# Altium footprint library syhaunguyen.PcbLib: 329 footprints (part 19 of 21)
Each footprint in its own frame and in the unit in brackets; x right, y up, seen from the top. Pads: shape width x height; smd on the part's side, far side on the other; paste and mask are expansions set on the pad; w line width, h text height; cw(c..) or ccw(c..) is an arc to the next point about the centre after c.
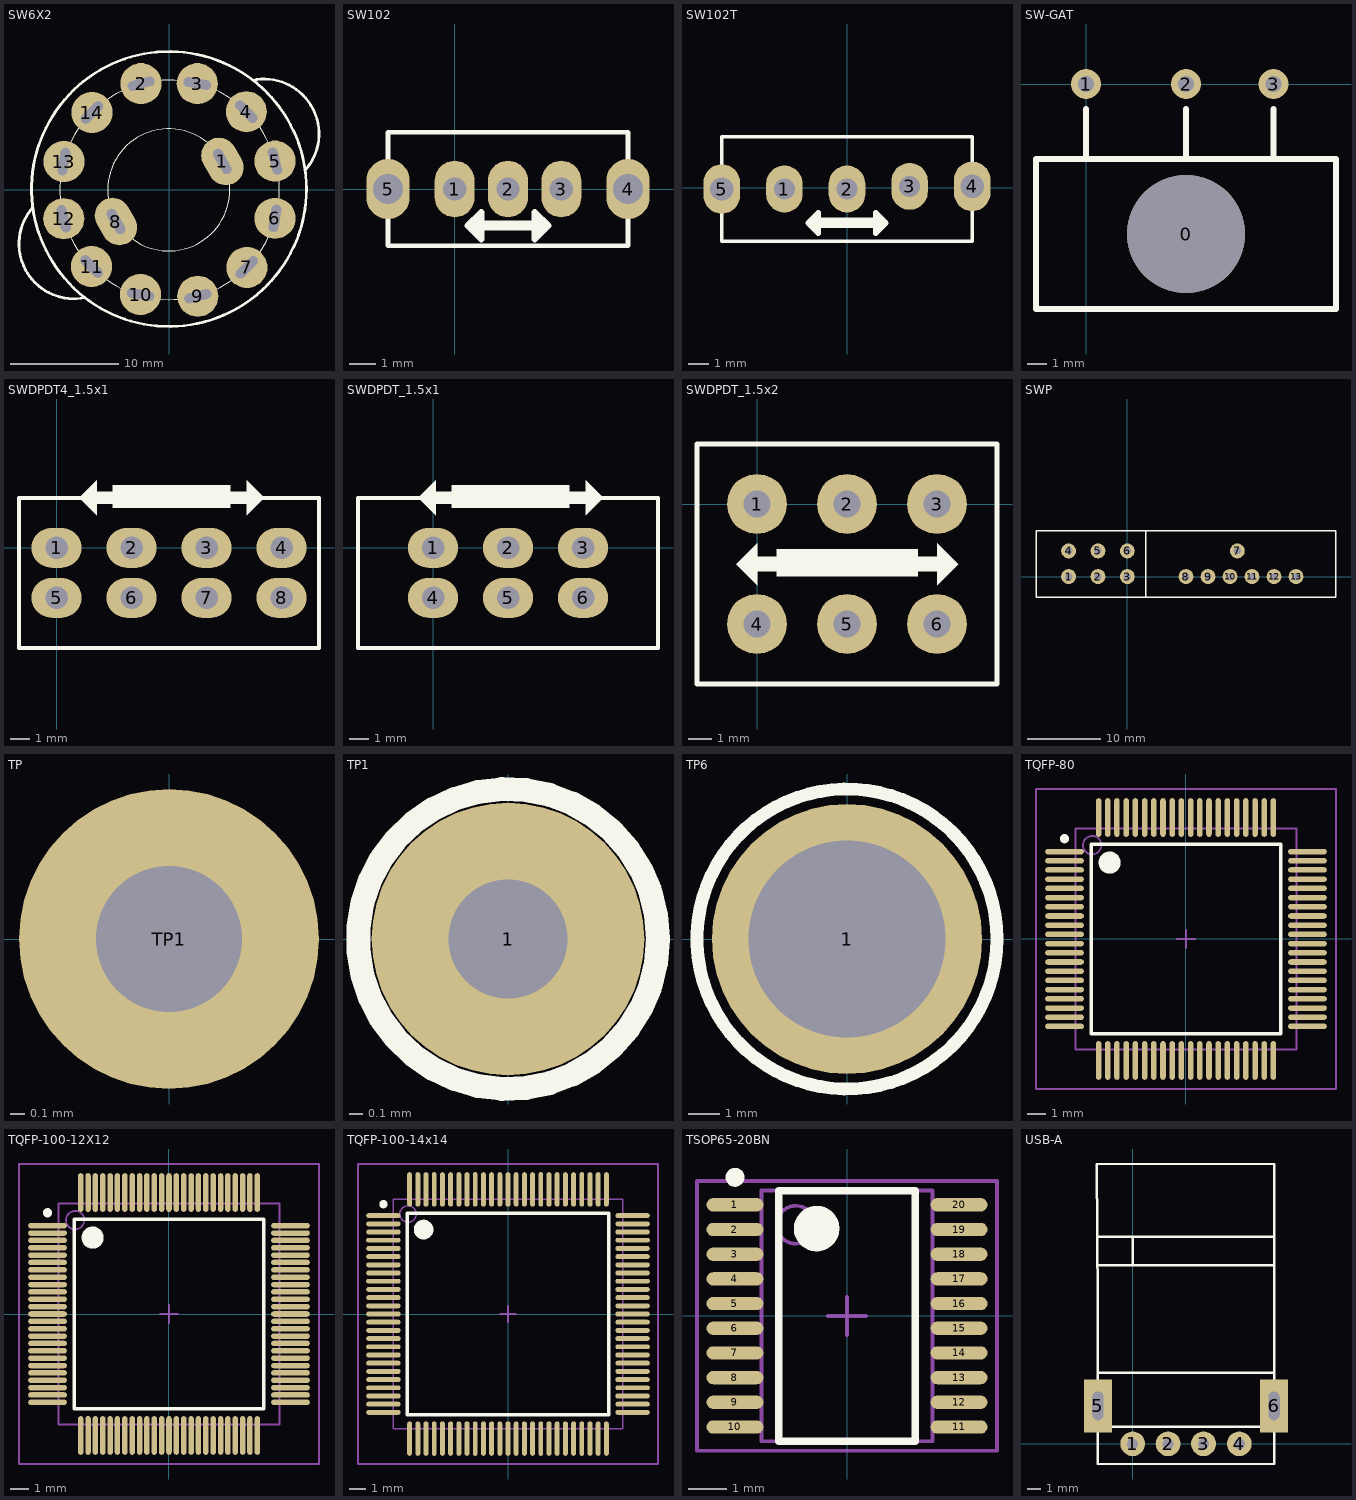
[diagram p18: the footprints below, top view; thin cyan lines are the x and y axes]

## SW6X2 [mil] "Switch 6x2"
height 500
pads (14):
  oval 180x130 hole 35 slot 100 at 120 deg rot 120: 1(193,104) 8(-195,-115)
  round 150 hole 35 slot 100 at 15 deg: 2(-103.48,387.48) 9(103.48,-387.48)
  round 150 hole 35 slot 100 at 170 deg: 3(101.54,387.46) 10(-105.2,-381.27)
  round 150 hole 35 slot 100 at 135 deg: 4(280.32,285.24) 11(-283.98,-279.05)
  round 150 hole 35 slot 100 at 105 deg: 5(385,105) 12(-385,-105)
  round 150 hole 35 slot 100 at 80 deg: 6(384.48,-103.48) 13(-384.48,103.48)
  round 150 hole 35 slot 100 at 45 deg: 7(282.26,-282.26) 14(-282.26,282.26)
Top Overlay:
  circle w10: c-1.46,3.46 r501
  circle w1: c0.54,0.46 r400
  circle w1: c-2.46,0.46 r222.5
  lines w10: -498,-63.94 ccw(c-348.29,-196.56) -307.65,-392.38 ; 303.52,399.93 cw(c345.18,204.32) 495.11,71.95

## SW102 [mil] "Switch 102 On Board nho"
height 2
pads (5):
  oval 60x85 hole 35: 1(0,0) 2(80,0) 3(160,0)
  oval 65x90 hole 45: 4(260,0) 5(-100,0)
Top Overlay:
  lines w7: -100,-45 -100,-85 260,-85 260,-45 ; -100,45 -100,85 260,85 260,45
  lines w10: 20,-55 40,-35 40,-75 20,-55 ; 120,-75 120,-35 140,-55 120,-75
  lines w15: 30,-55 130,-55

## SW102T [mil] "Switch 102 On Board To"
height 2
pads (5):
  oval 70x90 hole 40: 1(-120,-2.5) 2(0,-2.5) 3(120,2.5)
  oval 70x95 hole 45: 4(240,2.5) 5(-240,-2.5)
Top Overlay:
  lines w7: -240,-50 -240,-102.5 240,-102.5 240,-45 ; -240,45 -240,97.5 240,97.5 240,45
  lines w10: -75,-67.5 -55,-47.5 -55,-87.5 -75,-67.5 ; 55,-87.5 55,-47.5 75,-67.5 55,-87.5
  lines w20: -65,-67.5 65,-67.5

## SW-GAT [mil]
pads (4):
  round 236.22 hole 236.22: 0(200,-300)
  round 60 hole 31.5: 1(0,0) 2(200,0) 3(375,0)
Top Overlay:
  lines w12: 0,-150 0,-50 ; 200,-150 200,-50 ; 375,-150 375,-50 ; -100,-450 -100,-150 500,-150 500,-450 -100,-450

## SWDPDT4_1.5x1 [mil] "Switch 3 DPDT, Pin to Pin 150mil, Row to Row 100mil"
pads (8):
  oval 100x80 hole 45: 1(0,0) 2(150,0) 3(300,0) 4(450,0) 5(0,-100) 6(150,-100) 7(300,-100) 8(450,-100)
Top Overlay:
  region: 80,135 80,65 45,100
  region: 380,135 380,65 415,100
  region: 112.5,125 347.5,125 347.5,80 112.5,80
  lines w8: -75,-200 525,-200 525,100 -75,100 -75,-200
  lines w25: 75,100 125,100 ; 335,100 385,100

## SWDPDT_1.5x1 [mil] "Switch DPDT, Pin to Pin 150mil, Row to Row 100mil"
pads (6):
  oval 100x80 hole 45: 1(0,0) 2(150,0) 3(300,0) 4(0,-100) 5(150,-100) 6(300,-100)
Top Overlay:
  region: 5,135 5,65 -30,100
  region: 305,135 305,65 340,100
  region: 37.5,125 272.5,125 272.5,80 37.5,80
  lines w8: -150,-200 450,-200 450,100 -150,100 -150,-200
  lines w25: 0,100 50,100 ; 260,100 310,100

## SWDPDT_1.5x2 [mil] "Switch DPDT, Pin to Pin 150mil, Row to Row 200mil"
pads (6):
  round 100 hole 45: 1(0,0) 2(150,0) 3(300,0) 4(0,-200) 5(150,-200) 6(300,-200)
Top Overlay:
  region: 0,-65 0,-135 -35,-100
  region: 300,-65 300,-135 335,-100
  region: 32.5,-75 267.5,-75 267.5,-120 32.5,-120
  lines w8: -100,-300 400,-300 400,100 -100,100 -100,-300
  lines w25: -5,-100 45,-100 ; 255,-100 305,-100

## SWP [mil] "SW Power"
height 100
pads (13):
  round 80 hole 40: 1(-314.96,0) 2(-157.48,0) 3(0,0) 4(-314.96,137.8) 5(-157.48,137.8) 6(0,137.8) 7(590.55,137.8) 8(314.96,0) 9(433.07,0) 10(551.18,0) 11(669.29,0) 12(787.4,0) 13(905.51,0)
Top Overlay:
  lines w8: 100,-109.33 100,245 ; -490,-110 1120,-110 1120,245 -490,245 -490,-110

## TP [mil] "Connect 1"
pads (1):
  round 80 hole 39: TP1(0,0)
3D body: height 178.54, standoff -113.98, extent -50,-50 50,50

## TP1 [mil] "Test point"
height 150
pads (1):
  round 80 hole 35: 1(0,0)
Top Overlay:
  circle w7: c0,0 r44.01
3D body: height 178.11, standoff -114.41, extent -50,-50 50,50

## TP6 [mm] "Jac cap 6ly"
height 3.81
pads (1):
  round 8.5 hole 6.2: 1(0,0)
Top Overlay:
  circle w0.406: c0,0 r4.724

## TQFP-80 [mm] "Thin QFP, 80-Leads, Body 12x12mm, Pitch 0.5mm, IPC Low Density"
height 1.2
pads (80):
  oval 2.1x0.3 smd: 1(-6.6,4.75) 2(-6.6,4.25) 3(-6.6,3.75) 4(-6.6,3.25) 5(-6.6,2.75) 6(-6.6,2.25) 7(-6.6,1.75) 8(-6.6,1.25) 9(-6.6,0.75) 10(-6.6,0.25) 11(-6.6,-0.25) 12(-6.6,-0.75) 13(-6.6,-1.25) 14(-6.6,-1.75) 15(-6.6,-2.25) 16(-6.6,-2.75) 17(-6.6,-3.25) 18(-6.6,-3.75) 19(-6.6,-4.25) 20(-6.6,-4.75) 41(6.6,-4.75) 42(6.6,-4.25) 43(6.6,-3.75) 44(6.6,-3.25) 45(6.6,-2.75) 46(6.6,-2.25) 47(6.6,-1.75) 48(6.6,-1.25) 49(6.6,-0.75) 50(6.6,-0.25) 51(6.6,0.25) 52(6.6,0.75) 53(6.6,1.25) 54(6.6,1.75) 55(6.6,2.25) 56(6.6,2.75) 57(6.6,3.25) 58(6.6,3.75) 59(6.6,4.25) 60(6.6,4.75)
  oval 0.3x2.1 smd: 21(-4.75,-6.6) 22(-4.25,-6.6) 23(-3.75,-6.6) 24(-3.25,-6.6) 25(-2.75,-6.6) 26(-2.25,-6.6) 27(-1.75,-6.6) 28(-1.25,-6.6) 29(-0.75,-6.6) 30(-0.25,-6.6) 31(0.25,-6.6) 32(0.75,-6.6) 33(1.25,-6.6) 34(1.75,-6.6) 35(2.25,-6.6) 36(2.75,-6.6) 37(3.25,-6.6) 38(3.75,-6.6) 39(4.25,-6.6) 40(4.75,-6.6) 61(4.75,6.6) 62(4.25,6.6) 63(3.75,6.6) 64(3.25,6.6) 65(2.75,6.6) 66(2.25,6.6) 67(1.75,6.6) 68(1.25,6.6) 69(0.75,6.6) 70(0.25,6.6) 71(-0.25,6.6) 72(-0.75,6.6) 73(-1.25,6.6) 74(-1.75,6.6) 75(-2.25,6.6) 76(-2.75,6.6) 77(-3.25,6.6) 78(-3.75,6.6) 79(-4.25,6.6) 80(-4.75,6.6)
Top Overlay:
  circle w0.25: c-6.6,5.45 r0.125
  circle w0.6: c-4.15,4.15 r0.3
  lines w0.2: -5.15,-5.15 -5.15,5.15 5.15,5.15 5.15,-5.15 -5.15,-5.15
Mechanical 13:
  circle w0.1: c-5.1,5.1 r0.5
  lines w0.1: -6,-6 -6,6 6,6 6,-6 -6,-6
Mechanical 15:
  lines w0.1: -0.5,0 0.5,0 ; 0,-0.5 0,0.5 ; -8.15,-8.15 -8.15,8.15 8.15,8.15 8.15,-8.15 -8.15,-8.15
3D body: height 1.2, standoff 0, extent -6,-6 6,6

## TQFP-100-12X12 [mm] "Shrink QFP, 100-Leads, Body 12x12mm, Pitch 0.4mm, IPC High Density"
height 2.2
pads (100):
  oval 2.1x0.3 smd: 1(-6.6,4.8) 2(-6.6,4.4) 3(-6.6,4) 4(-6.6,3.6) 5(-6.6,3.2) 6(-6.6,2.8) 7(-6.6,2.4) 8(-6.6,2) 9(-6.6,1.6) 10(-6.6,1.2) 11(-6.6,0.8) 12(-6.6,0.4) 13(-6.6,0) 14(-6.6,-0.4) 15(-6.6,-0.8) 16(-6.6,-1.2) 17(-6.6,-1.6) 18(-6.6,-2) 19(-6.6,-2.4) 20(-6.6,-2.8) 21(-6.6,-3.2) 22(-6.6,-3.6) 23(-6.6,-4) 24(-6.6,-4.4) 25(-6.6,-4.8) 51(6.6,-4.8) 52(6.6,-4.4) 53(6.6,-4) 54(6.6,-3.6) 55(6.6,-3.2) 56(6.6,-2.8) 57(6.6,-2.4) 58(6.6,-2) 59(6.6,-1.6) 60(6.6,-1.2) 61(6.6,-0.8) 62(6.6,-0.4) 63(6.6,0) 64(6.6,0.4) 65(6.6,0.8) 66(6.6,1.2) 67(6.6,1.6) 68(6.6,2) 69(6.6,2.4) 70(6.6,2.8) 71(6.6,3.2) 72(6.6,3.6) 73(6.6,4) 74(6.6,4.4) 75(6.6,4.8)
  oval 0.3x2.1 smd: 26(-4.8,-6.6) 27(-4.4,-6.6) 28(-4,-6.6) 29(-3.6,-6.6) 30(-3.2,-6.6) 31(-2.8,-6.6) 32(-2.4,-6.6) 33(-2,-6.6) 34(-1.6,-6.6) 35(-1.2,-6.6) 36(-0.8,-6.6) 37(-0.4,-6.6) 38(0,-6.6) 39(0.4,-6.6) 40(0.8,-6.6) 41(1.2,-6.6) 42(1.6,-6.6) 43(2,-6.6) 44(2.4,-6.6) 45(2.8,-6.6) 46(3.2,-6.6) 47(3.6,-6.6) 48(4,-6.6) 49(4.4,-6.6) 50(4.8,-6.6) 76(4.8,6.6) 77(4.4,6.6) 78(4,6.6) 79(3.6,6.6) 80(3.2,6.6) 81(2.8,6.6) 82(2.4,6.6) 83(2,6.6) 84(1.6,6.6) 85(1.2,6.6) 86(0.8,6.6) 87(0.4,6.6) 88(0,6.6) 89(-0.4,6.6) 90(-0.8,6.6) 91(-1.2,6.6) 92(-1.6,6.6) 93(-2,6.6) 94(-2.4,6.6) 95(-2.8,6.6) 96(-3.2,6.6) 97(-3.6,6.6) 98(-4,6.6) 99(-4.4,6.6) 100(-4.8,6.6)
Top Overlay:
  circle w0.6: c-4.15,4.15 r0.3
  circle w0.25: c-6.6,5.5 r0.125
  lines w0.2: -5.15,-5.15 5.15,-5.15 5.15,5.15 -5.15,5.15 -5.15,-5.15
Mechanical 13:
  circle w0.1: c-5.1,5.1 r0.5
  lines w0.1: -6,-6 6,-6 6,6 -6,6 -6,-6
Mechanical 15:
  lines w0.1: -0.5,0 0.5,0 ; 0,-0.5 0,0.5 ; -8.15,-8.15 8.15,-8.15 8.15,8.15 -8.15,8.15 -8.15,-8.15
3D body: height 2.2, standoff 0, extent -6,-6 6,6

## TQFP-100-14x14 [mm] "Thin QFP, 100-Leads, Body 14x14mm, Pitch 0.5mm, IPC Low Density"
height 1.6
pads (100):
  oval 2.1x0.3 smd: 1(-7.6,6) 2(-7.6,5.5) 3(-7.6,5) 4(-7.6,4.5) 5(-7.6,4) 6(-7.6,3.5) 7(-7.6,3) 8(-7.6,2.5) 9(-7.6,2) 10(-7.6,1.5) 11(-7.6,1) 12(-7.6,0.5) 13(-7.6,0) 14(-7.6,-0.5) 15(-7.6,-1) 16(-7.6,-1.5) 17(-7.6,-2) 18(-7.6,-2.5) 19(-7.6,-3) 20(-7.6,-3.5) 21(-7.6,-4) 22(-7.6,-4.5) 23(-7.6,-5) 24(-7.6,-5.5) 25(-7.6,-6) 51(7.6,-6) 52(7.6,-5.5) 53(7.6,-5) 54(7.6,-4.5) 55(7.6,-4) 56(7.6,-3.5) 57(7.6,-3) 58(7.6,-2.5) 59(7.6,-2) 60(7.6,-1.5) 61(7.6,-1) 62(7.6,-0.5) 63(7.6,0) 64(7.6,0.5) 65(7.6,1) 66(7.6,1.5) 67(7.6,2) 68(7.6,2.5) 69(7.6,3) 70(7.6,3.5) 71(7.6,4) 72(7.6,4.5) 73(7.6,5) 74(7.6,5.5) 75(7.6,6)
  oval 0.3x2.1 smd: 26(-6,-7.6) 27(-5.5,-7.6) 28(-5,-7.6) 29(-4.5,-7.6) 30(-4,-7.6) 31(-3.5,-7.6) 32(-3,-7.6) 33(-2.5,-7.6) 34(-2,-7.6) 35(-1.5,-7.6) 36(-1,-7.6) 37(-0.5,-7.6) 38(0,-7.6) 39(0.5,-7.6) 40(1,-7.6) 41(1.5,-7.6) 42(2,-7.6) 43(2.5,-7.6) 44(3,-7.6) 45(3.5,-7.6) 46(4,-7.6) 47(4.5,-7.6) 48(5,-7.6) 49(5.5,-7.6) 50(6,-7.6) 76(6,7.6) 77(5.5,7.6) 78(5,7.6) 79(4.5,7.6) 80(4,7.6) 81(3.5,7.6) 82(3,7.6) 83(2.5,7.6) 84(2,7.6) 85(1.5,7.6) 86(1,7.6) 87(0.5,7.6) 88(0,7.6) 89(-0.5,7.6) 90(-1,7.6) 91(-1.5,7.6) 92(-2,7.6) 93(-2.5,7.6) 94(-3,7.6) 95(-3.5,7.6) 96(-4,7.6) 97(-4.5,7.6) 98(-5,7.6) 99(-5.5,7.6) 100(-6,7.6)
Top Overlay:
  circle w0.25: c-7.6,6.7 r0.125
  circle w0.6: c-5.15,5.15 r0.3
  lines w0.2: -6.15,-6.15 -6.15,6.15 6.15,6.15 6.15,-6.15 -6.15,-6.15
Mechanical 13:
  circle w0.1: c-6.1,6.1 r0.5
  lines w0.1: -7,-7 -7,7 7,7 7,-7 -7,-7
Mechanical 15:
  lines w0.1: -0.5,0 0.5,0 ; 0,-0.5 0,0.5 ; -9.15,-9.15 -9.15,9.15 9.15,9.15 9.15,-9.15 -9.15,-9.15
3D body: height 1.6, standoff 0, extent -7,-7 7,7

## TSOP65-20BN [mm] "TSOP, 20-Leads, Body 6.5x4.4mm, Pitch 0.65mm, IPC Medium Density"
height 1.2
pads (20):
  oval 1.5x0.35 smd: 1(-2.95,2.925) 2(-2.95,2.275) 3(-2.95,1.625) 4(-2.95,0.975) 5(-2.95,0.325) 6(-2.95,-0.325) 7(-2.95,-0.975) 8(-2.95,-1.625) 9(-2.95,-2.275) 10(-2.95,-2.925) 11(2.95,-2.925) 12(2.95,-2.275) 13(2.95,-1.625) 14(2.95,-0.975) 15(2.95,-0.325) 16(2.95,0.325) 17(2.95,0.975) 18(2.95,1.625) 19(2.95,2.275) 20(2.95,2.925)
Top Overlay:
  circle w0.25: c-2.95,3.65 r0.125
  circle w0.6: c-0.8,2.3 r0.3
  lines w0.2: -1.8,-3.3 -1.8,3.3 1.8,3.3 1.8,-3.3 -1.8,-3.3
Mechanical 13:
  circle w0.1: c-1.35,2.4 r0.5
  lines w0.1: -2.25,-3.3 -2.25,3.3 2.25,3.3 2.25,-3.3 -2.25,-3.3
Mechanical 15:
  lines w0.1: -0.5,0 0.5,0 ; 0,-0.5 0,0.5 ; -3.95,-3.55 -3.95,3.55 3.95,3.55 3.95,-3.55 -3.95,-3.55
3D body: height 1.2, standoff 0, extent -2.25,-3.3 2.25,3.3

## USB-A [mil]
pads (6):
  round 70 hole 31: 1(0,0) 2(100,0) 3(200,0) 4(301,0)
  rect 80x150 hole 31 slot 80 at 90 deg: 5(-98,107) 6(399,107)
Top Overlay:
  lines w7: -99,200 400,200 ; -99,504 400,504 ; -99,584 400,584 ; -98,48 401,48 ; 0,504 0,584 ; -101.03,790 400,790 400,-57 -99,-57 -99,397 -101.03,790
3D body: height 177.17, standoff -51.16, extent -97.29,-0.22 399,784.22